# EAGLE library part NCL30105 (library onsemi-led-driver)
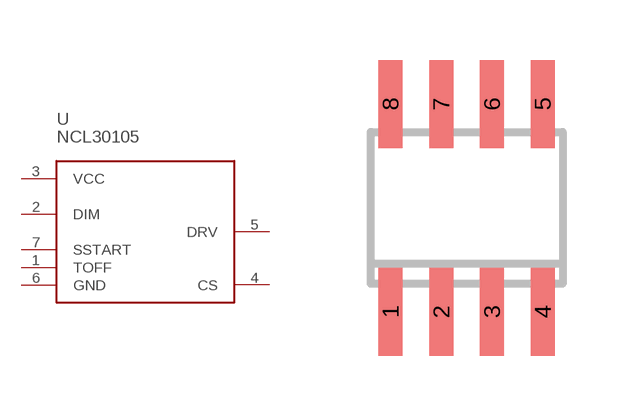
[diagram p0: symbol with the pads of SOIC8; footprint SOIC8]

Designator prefix -

## NCL30105DR2G  [SOIC8]
1  TOFF
2  DIM
3  VCC
4  CS
5  DRV
6  GND
7  SSTART

## Footprint SOIC8 (pad centres in mm)
Small Outline IC
smd 0.6 x 2.2: 1 -1.905,-2.6; 2 -0.635,-2.6; 3 0.635,-2.6; 4 1.905,-2.6; 5 1.905,2.6; 6 0.635,2.6; 7 -0.635,2.6; 8 -1.905,2.6